# Altium schematic symbol library Logic_lvl_conv.SchLib: 1 symbol
Pins are listed as number, name and electrical type; pins without a type are passive.

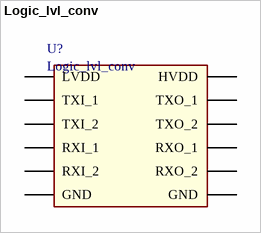
[diagram p0: symbol Logic_lvl_conv]

## Logic_lvl_conv
designator U?
footprint Logic_lvl_conv
pins: 1 TXO_2, 2 RXI_2, 3 GND, 4 HVDD, 5 RXI_1, 6 TXO_1, 7 TXI_1, 8 RXO_1, 9 LVDD, 10 GND, 11 RXO_2, 12 TXI_2